# Altium schematic symbol library XJTLU_Torpedo.SchLib: 7 symbols
Pins are listed as number, name and electrical type; pins without a type are passive.

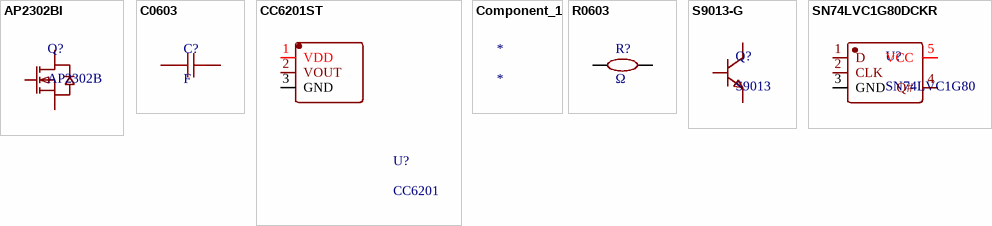
[diagram p0: symbols AP2302BI to SN74LVC1G80DCKR]

## AP2302BI
designator Q?, comment AP2302B
20V N-Channel Enhancement Mode MOSFET
footprint SOT-23-3
pins: 1 G, 2 S, 3 D

## C0603
designator C?, comment F
0603封装电容
footprint 0603
pins: 1, 2

## CC6201ST
designator U?, comment CC6201
CC6201是一颗微功耗、高灵敏度全极性、并具有闩锁输出的霍尔开关传感装置，可直接取代传统的磁簧开关
footprint TSOT-23-3
pins: 1 VDD, 2 VOUT, 3 GND

## Component_1
designator *

## R0603
designator R?, comment Ω
0603封装电阻
footprint 0603
pins: 1, 2

## S9013-G
designator Q?, comment S9013
SOT-23 Plastic-Encapsulate Transistors
footprint SOT-23-3
pins: 1 B, 2 E, 3 C

## SN74LVC1G80DCKR
designator U?, comment SN74LVC1G80
单路正缘触发D 型触发器
footprint SC-70-5P
pins: 1 D, 2 CLK, 3 GND, 4 Q#, 5 VCC